# EAGLE library part FSUSB42 (library raspberrypi_cm-1)
FSUSB42 www.hasseb.fi
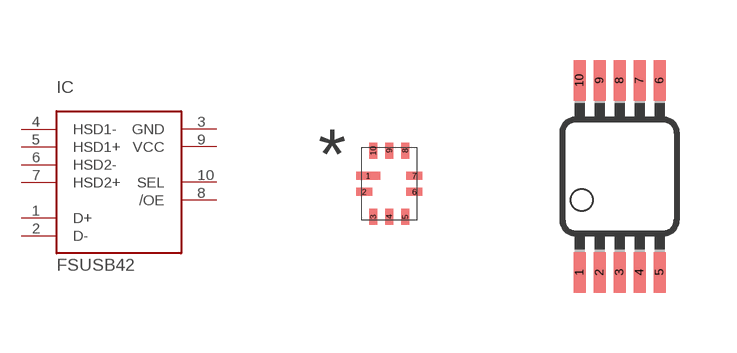
[diagram p5: symbol with the pads of UMLP; footprints UMLP, MSOP10]

Designator prefix IC

## FSUSB42UMLP  [UMLP]
1  D+
2  D-
3  GND
4  HSD1-
5  HSD1+
6  HSD2-
7  HSD2+
8  /OE
9  VCC
10  SEL

## FSUSB42MSOP10  [MSOP10]
1  VCC
2  SEL
3  D+
4  D-
5  GND
6  HSD1-
7  HSD1+
8  HSD2-
9  HSD2+
10  /OE

## Footprint UMLP (pad centres in mm)
smd 0.6 x 0.2: 1 -0.527,0.2
smd 0.4 x 0.2: 2 -0.627,-0.2; 6 0.627,-0.2; 7 0.627,0.2
smd 0.2 x 0.4: 3 -0.4,-0.827; 4 0,-0.827; 5 0.4,-0.827; 8 0.4,0.827; 9 0,0.827; 10 -0.4,0.827

## Footprint MSOP10 (pad centres in mm)
10 Lead MSOP Package NS Package Number MUB10A Source: http://cache.national.com/ds/LM/LM5030.pdf
smd 0.3 x 1.02: 1 -1,-2.4; 2 -0.5,-2.4; 3 0,-2.4; 4 0.5,-2.4; 5 1,-2.4; 6 1,2.4; 7 0.5,2.4; 8 0,2.4; 9 -0.5,2.4; 10 -1,2.4